# EAGLE library part E09A41RA (library crayon)
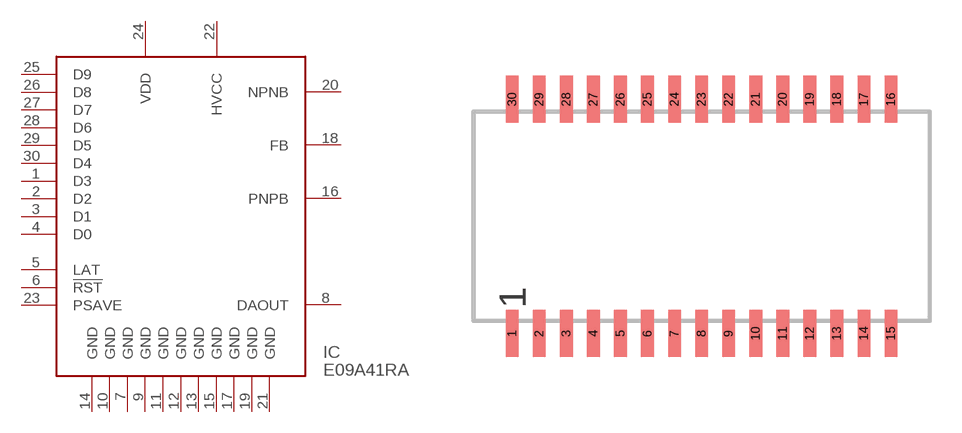
[diagram p0: symbol with the pads of SOP30; footprint SOP30]

Designator prefix IC

## E09A41RA  [SOP30]
1  D3  in
2  D2  in
3  D1  in
4  D0  in
5  LAT  in
6  !RST  in
7  GND  pwr
8  DAOUT  out
9  GND  pwr
10  GND  pwr
11  GND  pwr
12  GND  pwr
13  GND  pwr
14  GND  pwr
15  GND  pwr
16  PNPB  out
17  GND  pwr
18  FB  out
19  GND  pwr
20  NPNB  out
21  GND  pwr
22  HVCC  pwr
23  PSAVE  in
24  VDD  pwr
25  D9  in
26  D8  in
27  D7  in
28  D6  in
29  D5  in
30  D4  in

## Footprint SOP30 (pad centres in mm)
SMALL OUTLINE PACKAGE
smd 0.6 x 2.2: 1 -8.89,-5.5; 2 -7.62,-5.5; 3 -6.35,-5.5; 4 -5.08,-5.5; 5 -3.81,-5.5; 6 -2.54,-5.5; 7 -1.27,-5.5; 8 0,-5.5; 9 1.27,-5.5; 10 2.54,-5.5; 11 3.81,-5.5; 12 5.08,-5.5; 13 6.35,-5.5; 14 7.62,-5.5; 15 8.89,-5.5; 16 8.89,5.5; 17 7.62,5.5; 18 6.35,5.5; 19 5.08,5.5; 20 3.81,5.5; 21 2.54,5.5; 22 1.27,5.5; 23 0,5.5; 24 -1.27,5.5; 25 -2.54,5.5; 26 -3.81,5.5; 27 -5.08,5.5; 28 -6.35,5.5; 29 -7.62,5.5; 30 -8.89,5.5